# Altium schematic symbol library ADXL345.SchLib: 1 symbol
Pins are listed as number, name and electrical type; pins without a type are passive.

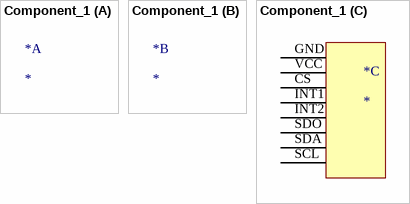
[diagram p0: symbol Component_1]

## Component_1
designator *
footprint GRAVITECH_8FX1-254MM
part C pins: CS, GND, INT1, INT2, SCL, SDA, SDO, VCC